# Altium integrated library TI Power Management Battery Management.IntLib: 949 symbols (part 16 of 62)
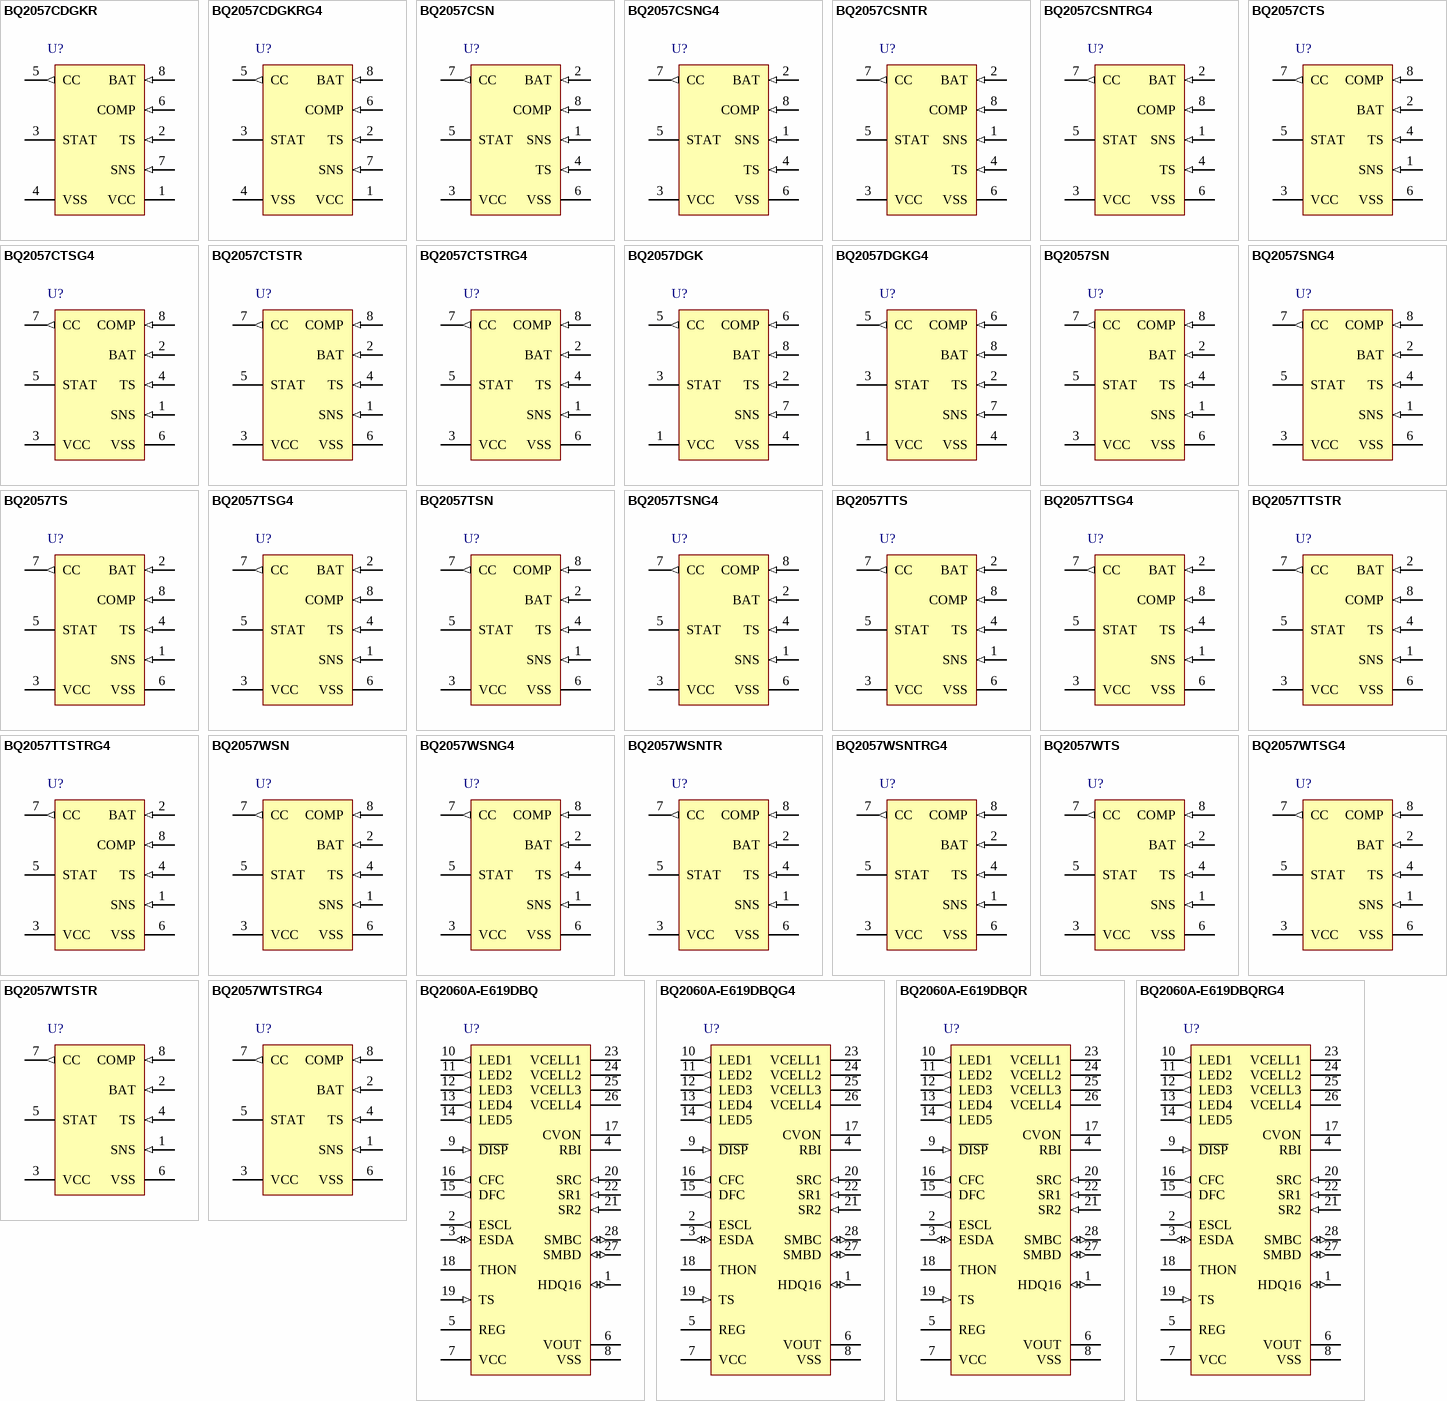
[diagram p49: symbols BQ2057CDGKR to BQ2060A-E619DBQRG4]

## BQ2057CSN
designator U?
Low Dropout Linear 1-Cell Li-Ion Charge Controller with AutoCompTM, 4.5 V, -20 to 70 degC, 8-pin SOIC (D), Green (RoHS & no Sb/Br); PartNumber: BQ2057CSN; Manufacturer: Texas Instruments; Lead Acid: N; Li-Ion: Y; SubFamily: Battery Charge Management; Vin(Min)(V): 4.5; DatasheetVersion: SLUS025F; PackageVersion: revM, Jun-2011; PackageReference: D8; PackageDescription: 8-Pin Plastic Small Outline Integrated Circuit, 4.9 x 3.9 mm, Pitch 1.27 mm Pitch; Supplier 1: Digi-Key; Supplier Part Number 1: 296-9358-5-ND; Supplier 2: Farnell; Supplier Part Number 2: 1652449; Supplier 3: Newark; Supplier Part Number 3: 74C7587; Supplier 4: Mouser; Supplier Part Number 4: 595-BQ2057CSN; Eco-Plan: Green (RoHS & no Sb/Br); Li-Polymer: Y; NiCd: N; NiMH: N; Over Voltage Protection: N; Mounting Technology: Surface Mount; Code_JEDEC: MS-012AA; ComponentLink1Description: Datasheet; ComponentLink1URL: http://www.ti.com/general/docs/lit/getliterature.tsp?genericPartNumber=BQ2057C&fileType=pdf
footprint D8_N (SOIC, 8-Leads, Body 4.9x3.9mm, Pitch 1.27mm, IPC Medium Density)
footprint D8_L (SOIC, 8-Leads, Body 4.9x3.9mm, Pitch 1.27mm, IPC High Density)
footprint D8_M (SOIC, 8-Leads, Body 4.9x3.9mm, Pitch 1.27mm, IPC Low Density)
pins: 1 SNS (in) "Current sense input", 2 BAT (in) "Voltage sense input", 3 VCC (power) "Supply voltage", 4 TS (in) "Temperature sense input", 5 STAT (hiz) "Charge status output", 6 VSS (power) "Ground", 7 CC (out) "Charge control output", 8 COMP (in) "Charge-rate compensation input (AutoComp)"

## BQ2057CSNG4
designator U?
Low Dropout Linear 1-Cell Li-Ion Charge Controller with AutoCompTM, 4.5 V, -20 to 70 degC, 8-pin SOIC (D), Green (RoHS & no Sb/Br); PartNumber: BQ2057CSNG4; Manufacturer: Texas Instruments; Lead Acid: N; Li-Ion: Y; SubFamily: Battery Charge Management; Vin(Min)(V): 4.5; DatasheetVersion: SLUS025F; PackageVersion: revM, Jun-2011; PackageReference: D8; PackageDescription: 8-Pin Plastic Small Outline Integrated Circuit, 4.9 x 3.9 mm, Pitch 1.27 mm Pitch; Supplier 1: Digi-Key; Supplier Part Number 1: BQ2057CSNG4-ND; Supplier 2: Newark; Supplier Part Number 2: 18M1764; Supplier 3: Mouser; Supplier Part Number 3: 595-BQ2057CSNG4; Eco-Plan: Green (RoHS & no Sb/Br); Li-Polymer: Y; NiCd: N; NiMH: N; Over Voltage Protection: N; Mounting Technology: Surface Mount; Code_JEDEC: MS-012AA; ComponentLink1Description: Datasheet; ComponentLink1URL: http://www.ti.com/general/docs/lit/getliterature.tsp?genericPartNumber=BQ2057C&fileType=pdf
footprint D8_N (SOIC, 8-Leads, Body 4.9x3.9mm, Pitch 1.27mm, IPC Medium Density)
footprint D8_L (SOIC, 8-Leads, Body 4.9x3.9mm, Pitch 1.27mm, IPC High Density)
footprint D8_M (SOIC, 8-Leads, Body 4.9x3.9mm, Pitch 1.27mm, IPC Low Density)
pins: 1 SNS (in) "Current sense input", 2 BAT (in) "Voltage sense input", 3 VCC (power) "Supply voltage", 4 TS (in) "Temperature sense input", 5 STAT (hiz) "Charge status output", 6 VSS (power) "Ground", 7 CC (out) "Charge control output", 8 COMP (in) "Charge-rate compensation input (AutoComp)"

## BQ2057CSNTR
designator U?
Low Dropout Linear 1-Cell Li-Ion Charge Controller with AutoCompTM, 4.5 V, -20 to 70 degC, 8-pin SOIC (D), Green (RoHS & no Sb/Br); PartNumber: BQ2057CSNTR; Manufacturer: Texas Instruments; Lead Acid: N; Li-Ion: Y; SubFamily: Battery Charge Management; Vin(Min)(V): 4.5; DatasheetVersion: SLUS025F; PackageVersion: revM, Jun-2011; PackageReference: D8; PackageDescription: 8-Pin Plastic Small Outline Integrated Circuit, 4.9 x 3.9 mm, Pitch 1.27 mm Pitch; Supplier 1: Digi-Key; Supplier Part Number 1: BQ2057CSNTR-ND; Supplier 2: Newark; Supplier Part Number 2: 74C7588; Supplier 3: Mouser; Supplier Part Number 3: 595-BQ2057CSNTR; Eco-Plan: Green (RoHS & no Sb/Br); Li-Polymer: Y; NiCd: N; NiMH: N; Over Voltage Protection: N; Mounting Technology: Surface Mount; Code_JEDEC: MS-012AA; ComponentLink1Description: Datasheet; ComponentLink1URL: http://www.ti.com/general/docs/lit/getliterature.tsp?genericPartNumber=BQ2057C&fileType=pdf
footprint D8_N (SOIC, 8-Leads, Body 4.9x3.9mm, Pitch 1.27mm, IPC Medium Density)
footprint D8_L (SOIC, 8-Leads, Body 4.9x3.9mm, Pitch 1.27mm, IPC High Density)
footprint D8_M (SOIC, 8-Leads, Body 4.9x3.9mm, Pitch 1.27mm, IPC Low Density)
pins: 1 SNS (in) "Current sense input", 2 BAT (in) "Voltage sense input", 3 VCC (power) "Supply voltage", 4 TS (in) "Temperature sense input", 5 STAT (hiz) "Charge status output", 6 VSS (power) "Ground", 7 CC (out) "Charge control output", 8 COMP (in) "Charge-rate compensation input (AutoComp)"

## BQ2057CSNTRG4
designator U?
Low Dropout Linear 1-Cell Li-Ion Charge Controller with AutoCompTM, 4.5 V, -20 to 70 degC, 8-pin SOIC (D), Green (RoHS & no Sb/Br); PartNumber: BQ2057CSNTRG4; Manufacturer: Texas Instruments; Lead Acid: N; Li-Ion: Y; SubFamily: Battery Charge Management; Vin(Min)(V): 4.5; DatasheetVersion: SLUS025F; PackageVersion: revM, Jun-2011; PackageReference: D8; PackageDescription: 8-Pin Plastic Small Outline Integrated Circuit, 4.9 x 3.9 mm, Pitch 1.27 mm Pitch; Supplier 1: Digi-Key; Supplier Part Number 1: BQ2057CSNTRG4-ND; Supplier 2: Newark; Supplier Part Number 2: 18M1765; Supplier 3: Mouser; Supplier Part Number 3: 595-BQ2057CSNTRG4; Eco-Plan: Green (RoHS & no Sb/Br); Li-Polymer: Y; NiCd: N; NiMH: N; Over Voltage Protection: N; Mounting Technology: Surface Mount; Code_JEDEC: MS-012AA; ComponentLink1Description: Datasheet; ComponentLink1URL: http://www.ti.com/general/docs/lit/getliterature.tsp?genericPartNumber=BQ2057C&fileType=pdf
footprint D8_N (SOIC, 8-Leads, Body 4.9x3.9mm, Pitch 1.27mm, IPC Medium Density)
footprint D8_L (SOIC, 8-Leads, Body 4.9x3.9mm, Pitch 1.27mm, IPC High Density)
footprint D8_M (SOIC, 8-Leads, Body 4.9x3.9mm, Pitch 1.27mm, IPC Low Density)
pins: 1 SNS (in) "Current sense input", 2 BAT (in) "Voltage sense input", 3 VCC (power) "Supply voltage", 4 TS (in) "Temperature sense input", 5 STAT (hiz) "Charge status output", 6 VSS (power) "Ground", 7 CC (out) "Charge control output", 8 COMP (in) "Charge-rate compensation input (AutoComp)"

## BQ2057CTS
designator U?
Low Dropout Linear 1-Cell Li-Ion Charge Controller with AutoCompTM, 4.5 V, -20 to 70 degC, 8-pin TSSOP (PW), Green (RoHS & no Sb/Br); PartNumber: BQ2057CTS; Manufacturer: Texas Instruments; Lead Acid: N; Li-Ion: Y; SubFamily: Battery Charge Management; Vin(Min)(V): 4.5; DatasheetVersion: SLUS025F; PackageVersion: revG, Feb-2011; PackageReference: PW8; PackageDescription: 8-Pin Plastic Thin Small Outline Package 3 x 4.4 mm Body ,0.65 mm Pitch; Supplier 1: Digi-Key; Supplier Part Number 1: 296-9359-5-ND; Supplier 2: Newark; Supplier Part Number 2: 73C1707; Supplier 3: Mouser; Supplier Part Number 3: 595-BQ2057CTS; Eco-Plan: Green (RoHS & no Sb/Br); Li-Polymer: Y; NiCd: N; NiMH: N; Over Voltage Protection: N; Mounting Technology: Surface Mount; Code_JEDEC: MO-153; ComponentLink1Description: Datasheet; ComponentLink1URL: http://www.ti.com/general/docs/lit/getliterature.tsp?genericPartNumber=BQ2057C&fileType=pdf
footprint PW8_N (TSOP, 8-Leads, Body 3x4.4mm, Pitch 0.65mm, IPC Medium Density)
footprint PW8_L (TSOP, 8-Leads, Body 3x4.4mm, Pitch 0.65mm, IPC High Density)
footprint PW8_M (TSOP, 8-Leads, Body 3x4.4mm, Pitch 0.65mm, IPC Low Density)
pins: 1 SNS (in) "Current sense input", 2 BAT (in) "Voltage sense input", 3 VCC (power) "Supply voltage", 4 TS (in) "Temperature sense input", 5 STAT (hiz) "Charge status output", 6 VSS (power) "Ground", 7 CC (out) "Charge control output", 8 COMP (in) "Charge-rate compensation input (AutoComp)"

## BQ2057CTSG4
designator U?
Low Dropout Linear 1-Cell Li-Ion Charge Controller with AutoCompTM, 4.5 V, -20 to 70 degC, 8-pin TSSOP (PW), Green (RoHS & no Sb/Br); PartNumber: BQ2057CTSG4; Manufacturer: Texas Instruments; Lead Acid: N; Li-Ion: Y; SubFamily: Battery Charge Management; Vin(Min)(V): 4.5; DatasheetVersion: SLUS025F; PackageVersion: revG, Feb-2011; PackageReference: PW8; PackageDescription: 8-Pin Plastic Thin Small Outline Package 3 x 4.4 mm Body ,0.65 mm Pitch; Supplier 1: Digi-Key; Supplier Part Number 1: BQ2057CTSG4-ND; Supplier 2: Farnell; Supplier Part Number 2: 1287423; Supplier 3: Newark; Supplier Part Number 3: 58K5575; Supplier 4: Mouser; Supplier Part Number 4: 595-BQ2057CTSG4; Eco-Plan: Green (RoHS & no Sb/Br); Li-Polymer: Y; NiCd: N; NiMH: N; Over Voltage Protection: N; Mounting Technology: Surface Mount; Code_JEDEC: MO-153; ComponentLink1Description: Datasheet; ComponentLink1URL: http://www.ti.com/general/docs/lit/getliterature.tsp?genericPartNumber=BQ2057C&fileType=pdf
footprint PW8_N (TSOP, 8-Leads, Body 3x4.4mm, Pitch 0.65mm, IPC Medium Density)
footprint PW8_L (TSOP, 8-Leads, Body 3x4.4mm, Pitch 0.65mm, IPC High Density)
footprint PW8_M (TSOP, 8-Leads, Body 3x4.4mm, Pitch 0.65mm, IPC Low Density)
pins: 1 SNS (in) "Current sense input", 2 BAT (in) "Voltage sense input", 3 VCC (power) "Supply voltage", 4 TS (in) "Temperature sense input", 5 STAT (hiz) "Charge status output", 6 VSS (power) "Ground", 7 CC (out) "Charge control output", 8 COMP (in) "Charge-rate compensation input (AutoComp)"

## BQ2057CTSTR
designator U?
Low Dropout Linear 1-Cell Li-Ion Charge Controller with AutoCompTM, 4.5 V, -20 to 70 degC, 8-pin TSSOP (PW), Green (RoHS & no Sb/Br); PartNumber: BQ2057CTSTR; Manufacturer: Texas Instruments; Lead Acid: N; Li-Ion: Y; SubFamily: Battery Charge Management; Vin(Min)(V): 4.5; DatasheetVersion: SLUS025F; PackageVersion: revG, Feb-2011; PackageReference: PW8; PackageDescription: 8-Pin Plastic Thin Small Outline Package 3 x 4.4 mm Body ,0.65 mm Pitch; Supplier 1: Digi-Key; Supplier Part Number 1: 296-25916-2-ND; Supplier 2: Digi-Key; Supplier Part Number 2: 296-25916-1-ND; Supplier 3: Digi-Key; Supplier Part Number 3: 296-25916-6-ND; Supplier 4: Newark; Supplier Part Number 4: 74C7589; Supplier 5: Mouser; Supplier Part Number 5: 595-BQ2057CTSTR; Eco-Plan: Green (RoHS & no Sb/Br); Li-Polymer: Y; NiCd: N; NiMH: N; Over Voltage Protection: N; Mounting Technology: Surface Mount; Code_JEDEC: MO-153; ComponentLink1Description: Datasheet; ComponentLink1URL: http://www.ti.com/general/docs/lit/getliterature.tsp?genericPartNumber=BQ2057C&fileType=pdf
footprint PW8_N (TSOP, 8-Leads, Body 3x4.4mm, Pitch 0.65mm, IPC Medium Density)
footprint PW8_L (TSOP, 8-Leads, Body 3x4.4mm, Pitch 0.65mm, IPC High Density)
footprint PW8_M (TSOP, 8-Leads, Body 3x4.4mm, Pitch 0.65mm, IPC Low Density)
pins: 1 SNS (in) "Current sense input", 2 BAT (in) "Voltage sense input", 3 VCC (power) "Supply voltage", 4 TS (in) "Temperature sense input", 5 STAT (hiz) "Charge status output", 6 VSS (power) "Ground", 7 CC (out) "Charge control output", 8 COMP (in) "Charge-rate compensation input (AutoComp)"

## BQ2057CTSTRG4
designator U?
Low Dropout Linear 1-Cell Li-Ion Charge Controller with AutoCompTM, 4.5 V, -20 to 70 degC, 8-pin TSSOP (PW), Green (RoHS & no Sb/Br); PartNumber: BQ2057CTSTRG4; Manufacturer: Texas Instruments; Lead Acid: N; Li-Ion: Y; SubFamily: Battery Charge Management; Vin(Min)(V): 4.5; DatasheetVersion: SLUS025F; PackageVersion: revG, Feb-2011; PackageReference: PW8; PackageDescription: 8-Pin Plastic Thin Small Outline Package 3 x 4.4 mm Body ,0.65 mm Pitch; Supplier 1: Digi-Key; Supplier Part Number 1: BQ2057CTSTRG4-ND; Supplier 2: Newark; Supplier Part Number 2: 24K4377; Supplier 3: Mouser; Supplier Part Number 3: 595-BQ2057CTSTRG4; Eco-Plan: Green (RoHS & no Sb/Br); Li-Polymer: Y; NiCd: N; NiMH: N; Over Voltage Protection: N; Mounting Technology: Surface Mount; Code_JEDEC: MO-153; ComponentLink1Description: Datasheet; ComponentLink1URL: http://www.ti.com/general/docs/lit/getliterature.tsp?genericPartNumber=BQ2057C&fileType=pdf
footprint PW8_N (TSOP, 8-Leads, Body 3x4.4mm, Pitch 0.65mm, IPC Medium Density)
footprint PW8_L (TSOP, 8-Leads, Body 3x4.4mm, Pitch 0.65mm, IPC High Density)
footprint PW8_M (TSOP, 8-Leads, Body 3x4.4mm, Pitch 0.65mm, IPC Low Density)
pins: 1 SNS (in) "Current sense input", 2 BAT (in) "Voltage sense input", 3 VCC (power) "Supply voltage", 4 TS (in) "Temperature sense input", 5 STAT (hiz) "Charge status output", 6 VSS (power) "Ground", 7 CC (out) "Charge control output", 8 COMP (in) "Charge-rate compensation input (AutoComp)"

## BQ2057DGK
designator U?
Low Dropout Linear 1-Cell Li-Ion Charge Controller with AutoCompTM, 4.5 V, -20 to 70 degC, 8-pin MSOP (DGK), Green (RoHS & no Sb/Br); PartNumber: BQ2057DGK; Manufacturer: Texas Instruments; Lead Acid: N; Li-Ion: Y; SubFamily: Battery Charge Management; Vin(Min)(V): 4.5; DatasheetVersion: SLUS025F; PackageVersion: revE, May-2006; PackageReference: DGK8; PackageDescription: 8-Pin Thin Small Outline Package 3 x 3 mm Body ,0.65 mm Pitch; Supplier 1: Digi-Key; Supplier Part Number 1: 296-11992-5-ND; Supplier 2: Newark; Supplier Part Number 2: 74C7590; Supplier 3: Mouser; Supplier Part Number 3: 595-BQ2057DGK; Eco-Plan: Green (RoHS & no Sb/Br); Li-Polymer: Y; NiCd: N; NiMH: N; Over Voltage Protection: N; Mounting Technology: Surface Mount; Code_JEDEC: MO-187-AA; ComponentLink1Description: Datasheet; ComponentLink1URL: http://www.ti.com/general/docs/lit/getliterature.tsp?genericPartNumber=BQ2057&fileType=pdf
footprint DGK8_N (TSOP, 8-Leads, Body 3x3mm, Pitch 0.65mm, IPC Medium Density)
footprint DGK8_L (TSOP, 8-Leads, Body 3x3mm, Pitch 0.65mm, IPC High Density)
footprint DGK8_M (TSOP, 8-Leads, Body 3x3mm, Pitch 0.65mm, IPC Low Density)
pins: 1 VCC (power) "Supply voltage", 2 TS (in) "Temperature sense input", 3 STAT (hiz) "Charge status output", 4 VSS (power) "Ground", 5 CC (out) "Charge control output", 6 COMP (in) "Charge-rate compensation input (AutoComp)", 7 SNS (in) "Current sense input", 8 BAT (in) "Voltage sense input"

## BQ2057DGKG4
designator U?
Low Dropout Linear 1-Cell Li-Ion Charge Controller with AutoCompTM, 4.5 V, -20 to 70 degC, 8-pin MSOP (DGK), Green (RoHS & no Sb/Br); PartNumber: BQ2057DGKG4; Manufacturer: Texas Instruments; Lead Acid: N; Li-Ion: Y; SubFamily: Battery Charge Management; Vin(Min)(V): 4.5; DatasheetVersion: SLUS025F; PackageVersion: revE, May-2006; PackageReference: DGK8; PackageDescription: 8-Pin Thin Small Outline Package 3 x 3 mm Body ,0.65 mm Pitch; Supplier 1: Digi-Key; Supplier Part Number 1: BQ2057DGKG4-ND; Supplier 2: Newark; Supplier Part Number 2: 06M7009; Supplier 3: Mouser; Supplier Part Number 3: 595-BQ2057DGKG4; Eco-Plan: Green (RoHS & no Sb/Br); Li-Polymer: Y; NiCd: N; NiMH: N; Over Voltage Protection: N; Mounting Technology: Surface Mount; Code_JEDEC: MO-187-AA; ComponentLink1Description: Datasheet; ComponentLink1URL: http://www.ti.com/general/docs/lit/getliterature.tsp?genericPartNumber=BQ2057&fileType=pdf
footprint DGK8_N (TSOP, 8-Leads, Body 3x3mm, Pitch 0.65mm, IPC Medium Density)
footprint DGK8_L (TSOP, 8-Leads, Body 3x3mm, Pitch 0.65mm, IPC High Density)
footprint DGK8_M (TSOP, 8-Leads, Body 3x3mm, Pitch 0.65mm, IPC Low Density)
pins: 1 VCC (power) "Supply voltage", 2 TS (in) "Temperature sense input", 3 STAT (hiz) "Charge status output", 4 VSS (power) "Ground", 5 CC (out) "Charge control output", 6 COMP (in) "Charge-rate compensation input (AutoComp)", 7 SNS (in) "Current sense input", 8 BAT (in) "Voltage sense input"

## BQ2057SN
designator U?
Low Dropout Linear 1-Cell Li-Ion Charge Controller with AutoCompTM, 4.5 V, -20 to 70 degC, 8-pin SOIC (D), Green (RoHS & no Sb/Br); PartNumber: BQ2057SN; Manufacturer: Texas Instruments; Lead Acid: N; Li-Ion: Y; SubFamily: Battery Charge Management; Vin(Min)(V): 4.5; DatasheetVersion: SLUS025F; PackageVersion: revM, Jun-2011; PackageReference: D8; PackageDescription: 8-Pin Plastic Small Outline Integrated Circuit, 4.9 x 3.9 mm, Pitch 1.27 mm Pitch; Supplier 1: Digi-Key; Supplier Part Number 1: 296-9360-5-ND; Supplier 2: Farnell; Supplier Part Number 2: 1101403; Supplier 3: Newark; Supplier Part Number 3: 74C7592; Supplier 4: Mouser; Supplier Part Number 4: 595-BQ2057SN; Eco-Plan: Green (RoHS & no Sb/Br); Li-Polymer: Y; NiCd: N; NiMH: N; Over Voltage Protection: N; Mounting Technology: Surface Mount; Code_JEDEC: MS-012AA; ComponentLink1Description: Datasheet; ComponentLink1URL: http://www.ti.com/general/docs/lit/getliterature.tsp?genericPartNumber=BQ2057&fileType=pdf
footprint D8_N (SOIC, 8-Leads, Body 4.9x3.9mm, Pitch 1.27mm, IPC Medium Density)
footprint D8_L (SOIC, 8-Leads, Body 4.9x3.9mm, Pitch 1.27mm, IPC High Density)
footprint D8_M (SOIC, 8-Leads, Body 4.9x3.9mm, Pitch 1.27mm, IPC Low Density)
pins: 1 SNS (in) "Current sense input", 2 BAT (in) "Voltage sense input", 3 VCC (power) "Supply voltage", 4 TS (in) "Temperature sense input", 5 STAT (hiz) "Charge status output", 6 VSS (power) "Ground", 7 CC (out) "Charge control output", 8 COMP (in) "Charge-rate compensation input (AutoComp)"

## BQ2057SNG4
designator U?
Low Dropout Linear 1-Cell Li-Ion Charge Controller with AutoCompTM, 4.5 V, -20 to 70 degC, 8-pin SOIC (D), Green (RoHS & no Sb/Br); PartNumber: BQ2057SNG4; Manufacturer: Texas Instruments; Lead Acid: N; Li-Ion: Y; SubFamily: Battery Charge Management; Vin(Min)(V): 4.5; DatasheetVersion: SLUS025F; PackageVersion: revM, Jun-2011; PackageReference: D8; PackageDescription: 8-Pin Plastic Small Outline Integrated Circuit, 4.9 x 3.9 mm, Pitch 1.27 mm Pitch; Supplier 1: Digi-Key; Supplier Part Number 1: BQ2057SNG4-ND; Supplier 2: Newark; Supplier Part Number 2: 52M3028; Supplier 3: Mouser; Supplier Part Number 3: 595-BQ2057SNG4; Eco-Plan: Green (RoHS & no Sb/Br); Li-Polymer: Y; NiCd: N; NiMH: N; Over Voltage Protection: N; Mounting Technology: Surface Mount; Code_JEDEC: MS-012AA; ComponentLink1Description: Datasheet; ComponentLink1URL: http://www.ti.com/general/docs/lit/getliterature.tsp?genericPartNumber=BQ2057&fileType=pdf
footprint D8_N (SOIC, 8-Leads, Body 4.9x3.9mm, Pitch 1.27mm, IPC Medium Density)
footprint D8_L (SOIC, 8-Leads, Body 4.9x3.9mm, Pitch 1.27mm, IPC High Density)
footprint D8_M (SOIC, 8-Leads, Body 4.9x3.9mm, Pitch 1.27mm, IPC Low Density)
pins: 1 SNS (in) "Current sense input", 2 BAT (in) "Voltage sense input", 3 VCC (power) "Supply voltage", 4 TS (in) "Temperature sense input", 5 STAT (hiz) "Charge status output", 6 VSS (power) "Ground", 7 CC (out) "Charge control output", 8 COMP (in) "Charge-rate compensation input (AutoComp)"

## BQ2057TS
designator U?
Low Dropout Linear 1-Cell Li-Ion Charge Controller with AutoCompTM, 4.1 V, 4.5 V, -20 to 70 degC, 8-pin TSSOP (PW), Green (RoHS & no Sb/Br); PartNumber: BQ2057TS; Manufacturer: Texas Instruments; Lead Acid: N; Li-Ion: Y; SubFamily: Battery Charge Management; Vin(Min)(V): 4.5; DatasheetVersion: SLUS025F; PackageVersion: revG, Feb-2011; PackageReference: PW8; PackageDescription: 8-Pin Plastic Thin Small Outline Package 3 x 4.4 mm Body ,0.65 mm Pitch; Supplier 1: Digi-Key; Supplier Part Number 1: 296-9361-5-ND; Supplier 2: Farnell; Supplier Part Number 2: 1533750; Supplier 3: Newark; Supplier Part Number 3: 74C7594; Supplier 4: Mouser; Supplier Part Number 4: 595-BQ2057TS; Eco-Plan: Green (RoHS & no Sb/Br); Li-Polymer: Y; NiCd: N; NiMH: N; Over Voltage Protection: N; Mounting Technology: Surface Mount; Code_JEDEC: MO-153; ComponentLink1Description: Datasheet; ComponentLink1URL: http://www.ti.com/general/docs/lit/getliterature.tsp?genericPartNumber=BQ2057&fileType=pdf
footprint PW8_N (TSOP, 8-Leads, Body 3x4.4mm, Pitch 0.65mm, IPC Medium Density)
footprint PW8_L (TSOP, 8-Leads, Body 3x4.4mm, Pitch 0.65mm, IPC High Density)
footprint PW8_M (TSOP, 8-Leads, Body 3x4.4mm, Pitch 0.65mm, IPC Low Density)
pins: 1 SNS (in) "Current sense input", 2 BAT (in) "Voltage sense input", 3 VCC (power) "Supply voltage", 4 TS (in) "Temperature sense input", 5 STAT (hiz) "Charge status output", 6 VSS (power) "Ground", 7 CC (out) "Charge control output", 8 COMP (in) "Charge-rate compensation input (AutoComp)"

## BQ2057TSG4
designator U?
Low Dropout Linear 1-Cell Li-Ion Charge Controller with AutoCompTM, 4.1 V, 4.5 V, -20 to 70 degC, 8-pin TSSOP (PW), Green (RoHS & no Sb/Br); PartNumber: BQ2057TSG4; Manufacturer: Texas Instruments; Lead Acid: N; Li-Ion: Y; SubFamily: Battery Charge Management; Vin(Min)(V): 4.5; DatasheetVersion: SLUS025F; PackageVersion: revG, Feb-2011; PackageReference: PW8; PackageDescription: 8-Pin Plastic Thin Small Outline Package 3 x 4.4 mm Body ,0.65 mm Pitch; Supplier 1: Digi-Key; Supplier Part Number 1: BQ2057TSG4-ND; Supplier 2: Newark; Supplier Part Number 2: 41M2256; Supplier 3: Mouser; Supplier Part Number 3: 595-BQ2057TSG4; Eco-Plan: Green (RoHS & no Sb/Br); Li-Polymer: Y; NiCd: N; NiMH: N; Over Voltage Protection: N; Mounting Technology: Surface Mount; Code_JEDEC: MO-153; ComponentLink1Description: Datasheet; ComponentLink1URL: http://www.ti.com/general/docs/lit/getliterature.tsp?genericPartNumber=BQ2057&fileType=pdf
footprint PW8_N (TSOP, 8-Leads, Body 3x4.4mm, Pitch 0.65mm, IPC Medium Density)
footprint PW8_L (TSOP, 8-Leads, Body 3x4.4mm, Pitch 0.65mm, IPC High Density)
footprint PW8_M (TSOP, 8-Leads, Body 3x4.4mm, Pitch 0.65mm, IPC Low Density)
pins: 1 SNS (in) "Current sense input", 2 BAT (in) "Voltage sense input", 3 VCC (power) "Supply voltage", 4 TS (in) "Temperature sense input", 5 STAT (hiz) "Charge status output", 6 VSS (power) "Ground", 7 CC (out) "Charge control output", 8 COMP (in) "Charge-rate compensation input (AutoComp)"

## BQ2057TSN
designator U?
Low Dropout Linear 2-Cell Li-Ion Charge Controller with AutoCompTM, 4.5 V, -20 to 70 degC, 8-pin SOIC (D), Green (RoHS & no Sb/Br); PartNumber: BQ2057TSN; Manufacturer: Texas Instruments; Lead Acid: N; Li-Ion: Y; SubFamily: Battery Charge Management; Vin(Min)(V): 4.5; DatasheetVersion: SLUS025F; PackageVersion: revM, Jun-2011; PackageReference: D8; PackageDescription: 8-Pin Plastic Small Outline Integrated Circuit, 4.9 x 3.9 mm, Pitch 1.27 mm Pitch; Supplier 1: Digi-Key; Supplier Part Number 1: 296-9362-5-ND; Supplier 2: Newark; Supplier Part Number 2: 74C7595; Supplier 3: Mouser; Supplier Part Number 3: 595-BQ2057TSN; Eco-Plan: Green (RoHS & no Sb/Br); Li-Polymer: Y; NiCd: N; NiMH: N; Over Voltage Protection: N; Mounting Technology: Surface Mount; Code_JEDEC: MS-012AA; ComponentLink1Description: Datasheet; ComponentLink1URL: http://www.ti.com/general/docs/lit/getliterature.tsp?genericPartNumber=BQ2057T&fileType=pdf
footprint D8_N (SOIC, 8-Leads, Body 4.9x3.9mm, Pitch 1.27mm, IPC Medium Density)
footprint D8_L (SOIC, 8-Leads, Body 4.9x3.9mm, Pitch 1.27mm, IPC High Density)
footprint D8_M (SOIC, 8-Leads, Body 4.9x3.9mm, Pitch 1.27mm, IPC Low Density)
pins: 1 SNS (in) "Current sense input", 2 BAT (in) "Voltage sense input", 3 VCC (power) "Supply voltage", 4 TS (in) "Temperature sense input", 5 STAT (hiz) "Charge status output", 6 VSS (power) "Ground", 7 CC (out) "Charge control output", 8 COMP (in) "Charge-rate compensation input (AutoComp)"

## BQ2057TSNG4
designator U?
Low Dropout Linear 2-Cell Li-Ion Charge Controller with AutoCompTM, 4.5 V, -20 to 70 degC, 8-pin SOIC (D), Green (RoHS & no Sb/Br); PartNumber: BQ2057TSNG4; Manufacturer: Texas Instruments; Lead Acid: N; Li-Ion: Y; SubFamily: Battery Charge Management; Vin(Min)(V): 4.5; DatasheetVersion: SLUS025F; PackageVersion: revM, Jun-2011; PackageReference: D8; PackageDescription: 8-Pin Plastic Small Outline Integrated Circuit, 4.9 x 3.9 mm, Pitch 1.27 mm Pitch; Supplier 1: Digi-Key; Supplier Part Number 1: BQ2057TSNG4-ND; Supplier 2: Newark; Supplier Part Number 2: 94M6311; Supplier 3: Mouser; Supplier Part Number 3: 595-BQ2057TSNG4; Eco-Plan: Green (RoHS & no Sb/Br); Li-Polymer: Y; NiCd: N; NiMH: N; Over Voltage Protection: N; Mounting Technology: Surface Mount; Code_JEDEC: MS-012AA; ComponentLink1Description: Datasheet; ComponentLink1URL: http://www.ti.com/general/docs/lit/getliterature.tsp?genericPartNumber=BQ2057T&fileType=pdf
footprint D8_N (SOIC, 8-Leads, Body 4.9x3.9mm, Pitch 1.27mm, IPC Medium Density)
footprint D8_L (SOIC, 8-Leads, Body 4.9x3.9mm, Pitch 1.27mm, IPC High Density)
footprint D8_M (SOIC, 8-Leads, Body 4.9x3.9mm, Pitch 1.27mm, IPC Low Density)
pins: 1 SNS (in) "Current sense input", 2 BAT (in) "Voltage sense input", 3 VCC (power) "Supply voltage", 4 TS (in) "Temperature sense input", 5 STAT (hiz) "Charge status output", 6 VSS (power) "Ground", 7 CC (out) "Charge control output", 8 COMP (in) "Charge-rate compensation input (AutoComp)"

## BQ2057TTS
designator U?
Low Dropout Linear 2-Cell Li-Ion Charge Controller with AutoCompTM, 4.5 V, -20 to 70 degC, 8-pin TSSOP (PW), Green (RoHS & no Sb/Br); PartNumber: BQ2057TTS; Manufacturer: Texas Instruments; Lead Acid: N; Li-Ion: Y; SubFamily: Battery Charge Management; Vin(Min)(V): 4.5; DatasheetVersion: SLUS025F; PackageVersion: revG, Feb-2011; PackageReference: PW8; PackageDescription: 8-Pin Plastic Thin Small Outline Package 3 x 4.4 mm Body ,0.65 mm Pitch; Supplier 1: Digi-Key; Supplier Part Number 1: 296-9363-5-ND; Supplier 2: Newark; Supplier Part Number 2: 74C7598; Supplier 3: Mouser; Supplier Part Number 3: 595-BQ2057TTS; Eco-Plan: Green (RoHS & no Sb/Br); Li-Polymer: Y; NiCd: N; NiMH: N; Over Voltage Protection: N; Mounting Technology: Surface Mount; Code_JEDEC: MO-153; ComponentLink1Description: Datasheet; ComponentLink1URL: http://www.ti.com/general/docs/lit/getliterature.tsp?genericPartNumber=BQ2057T&fileType=pdf
footprint PW8_N (TSOP, 8-Leads, Body 3x4.4mm, Pitch 0.65mm, IPC Medium Density)
footprint PW8_L (TSOP, 8-Leads, Body 3x4.4mm, Pitch 0.65mm, IPC High Density)
footprint PW8_M (TSOP, 8-Leads, Body 3x4.4mm, Pitch 0.65mm, IPC Low Density)
pins: 1 SNS (in) "Current sense input", 2 BAT (in) "Voltage sense input", 3 VCC (power) "Supply voltage", 4 TS (in) "Temperature sense input", 5 STAT (hiz) "Charge status output", 6 VSS (power) "Ground", 7 CC (out) "Charge control output", 8 COMP (in) "Charge-rate compensation input (AutoComp)"

## BQ2057TTSG4
designator U?
Low Dropout Linear 2-Cell Li-Ion Charge Controller with AutoCompTM, 4.5 V, -20 to 70 degC, 8-pin TSSOP (PW), Green (RoHS & no Sb/Br); PartNumber: BQ2057TTSG4; Manufacturer: Texas Instruments; Lead Acid: N; Li-Ion: Y; SubFamily: Battery Charge Management; Vin(Min)(V): 4.5; DatasheetVersion: SLUS025F; PackageVersion: revG, Feb-2011; PackageReference: PW8; PackageDescription: 8-Pin Plastic Thin Small Outline Package 3 x 4.4 mm Body ,0.65 mm Pitch; Supplier 1: Digi-Key; Supplier Part Number 1: BQ2057TTSG4-ND; Supplier 2: Newark; Supplier Part Number 2: 69K8926; Supplier 3: Mouser; Supplier Part Number 3: 595-BQ2057TTSG4; Eco-Plan: Green (RoHS & no Sb/Br); Li-Polymer: Y; NiCd: N; NiMH: N; Over Voltage Protection: N; Mounting Technology: Surface Mount; Code_JEDEC: MO-153; ComponentLink1Description: Datasheet; ComponentLink1URL: http://www.ti.com/general/docs/lit/getliterature.tsp?genericPartNumber=BQ2057T&fileType=pdf
footprint PW8_N (TSOP, 8-Leads, Body 3x4.4mm, Pitch 0.65mm, IPC Medium Density)
footprint PW8_L (TSOP, 8-Leads, Body 3x4.4mm, Pitch 0.65mm, IPC High Density)
footprint PW8_M (TSOP, 8-Leads, Body 3x4.4mm, Pitch 0.65mm, IPC Low Density)
pins: 1 SNS (in) "Current sense input", 2 BAT (in) "Voltage sense input", 3 VCC (power) "Supply voltage", 4 TS (in) "Temperature sense input", 5 STAT (hiz) "Charge status output", 6 VSS (power) "Ground", 7 CC (out) "Charge control output", 8 COMP (in) "Charge-rate compensation input (AutoComp)"

## BQ2057TTSTR
designator U?
Low Dropout Linear 2-Cell Li-Ion Charge Controller with AutoCompTM, 4.5 V, -20 to 70 degC, 8-pin TSSOP (PW), Green (RoHS & no Sb/Br); PartNumber: BQ2057TTSTR; Manufacturer: Texas Instruments; Lead Acid: N; Li-Ion: Y; SubFamily: Battery Charge Management; Vin(Min)(V): 4.5; DatasheetVersion: SLUS025F; PackageVersion: revG, Feb-2011; PackageReference: PW8; PackageDescription: 8-Pin Plastic Thin Small Outline Package 3 x 4.4 mm Body ,0.65 mm Pitch; Supplier 1: Digi-Key; Supplier Part Number 1: BQ2057TTSTR-ND; Supplier 2: Newark; Supplier Part Number 2: 74C7599; Supplier 3: Mouser; Supplier Part Number 3: 595-BQ2057TTSTR; Eco-Plan: Green (RoHS & no Sb/Br); Li-Polymer: Y; NiCd: N; NiMH: N; Over Voltage Protection: N; Mounting Technology: Surface Mount; Code_JEDEC: MO-153; ComponentLink1Description: Datasheet; ComponentLink1URL: http://www.ti.com/general/docs/lit/getliterature.tsp?genericPartNumber=BQ2057T&fileType=pdf
footprint PW8_N (TSOP, 8-Leads, Body 3x4.4mm, Pitch 0.65mm, IPC Medium Density)
footprint PW8_L (TSOP, 8-Leads, Body 3x4.4mm, Pitch 0.65mm, IPC High Density)
footprint PW8_M (TSOP, 8-Leads, Body 3x4.4mm, Pitch 0.65mm, IPC Low Density)
pins: 1 SNS (in) "Current sense input", 2 BAT (in) "Voltage sense input", 3 VCC (power) "Supply voltage", 4 TS (in) "Temperature sense input", 5 STAT (hiz) "Charge status output", 6 VSS (power) "Ground", 7 CC (out) "Charge control output", 8 COMP (in) "Charge-rate compensation input (AutoComp)"

## BQ2057TTSTRG4
designator U?
Low Dropout Linear 2-Cell Li-Ion Charge Controller with AutoCompTM, 8.2 V, 4.5 V, -20 to 70 degC, 8-pin TSSOP (PW), Green (RoHS & no Sb/Br); PartNumber: BQ2057TTSTRG4; Manufacturer: Texas Instruments; Lead Acid: N; Li-Ion: Y; SubFamily: Battery Charge Management; Vin(Min)(V): 4.5; DatasheetVersion: SLUS025F; PackageVersion: revG, Feb-2011; PackageReference: PW8; PackageDescription: 8-Pin Plastic Thin Small Outline Package 3 x 4.4 mm Body ,0.65 mm Pitch; Supplier 1: Digi-Key; Supplier Part Number 1: BQ2057TTSTRG4-ND; Supplier 2: Newark; Supplier Part Number 2: 53K9225; Supplier 3: Mouser; Supplier Part Number 3: 595-BQ2057TTSTRG4; Eco-Plan: Green (RoHS & no Sb/Br); Li-Polymer: Y; NiCd: N; NiMH: N; Over Voltage Protection: N; Mounting Technology: Surface Mount; Code_JEDEC: MO-153; ComponentLink1Description: Datasheet; ComponentLink1URL: http://www.ti.com/general/docs/lit/getliterature.tsp?genericPartNumber=BQ2057T&fileType=pdf
footprint PW8_N (TSOP, 8-Leads, Body 3x4.4mm, Pitch 0.65mm, IPC Medium Density)
footprint PW8_L (TSOP, 8-Leads, Body 3x4.4mm, Pitch 0.65mm, IPC High Density)
footprint PW8_M (TSOP, 8-Leads, Body 3x4.4mm, Pitch 0.65mm, IPC Low Density)
pins: 1 SNS (in) "Current sense input", 2 BAT (in) "Voltage sense input", 3 VCC (power) "Supply voltage", 4 TS (in) "Temperature sense input", 5 STAT (hiz) "Charge status output", 6 VSS (power) "Ground", 7 CC (out) "Charge control output", 8 COMP (in) "Charge-rate compensation input (AutoComp)"

## BQ2057WSN
designator U?
Low Dropout Linear 2-Cell Li-Ion Charge Controller with AutoCompTM, 8.4 V, 4.5 V, -20 to 70 degC, 8-pin SOIC (D), Green (RoHS & no Sb/Br); PartNumber: BQ2057WSN; Manufacturer: Texas Instruments; Lead Acid: N; Li-Ion: Y; SubFamily: Battery Charge Management; Vin(Min)(V): 4.5; DatasheetVersion: SLUS025F; PackageVersion: revM, Jun-2011; PackageReference: D8; PackageDescription: 8-Pin Plastic Small Outline Integrated Circuit, 4.9 x 3.9 mm, Pitch 1.27 mm Pitch; Supplier 1: Digi-Key; Supplier Part Number 1: 296-9364-5-ND; Supplier 2: Farnell; Supplier Part Number 2: 1212263; Supplier 3: Newark; Supplier Part Number 3: 74C7600; Supplier 4: Mouser; Supplier Part Number 4: 595-BQ2057WSN; Eco-Plan: Green (RoHS & no Sb/Br); Li-Polymer: Y; NiCd: N; NiMH: N; Over Voltage Protection: N; Mounting Technology: Surface Mount; Code_JEDEC: MS-012AA; ComponentLink1Description: Datasheet; ComponentLink1URL: http://www.ti.com/general/docs/lit/getliterature.tsp?genericPartNumber=BQ2057W&fileType=pdf
footprint D8_N (SOIC, 8-Leads, Body 4.9x3.9mm, Pitch 1.27mm, IPC Medium Density)
footprint D8_L (SOIC, 8-Leads, Body 4.9x3.9mm, Pitch 1.27mm, IPC High Density)
footprint D8_M (SOIC, 8-Leads, Body 4.9x3.9mm, Pitch 1.27mm, IPC Low Density)
pins: 1 SNS (in) "Current sense input", 2 BAT (in) "Voltage sense input", 3 VCC (power) "Supply voltage", 4 TS (in) "Temperature sense input", 5 STAT (hiz) "Charge status output", 6 VSS (power) "Ground", 7 CC (out) "Charge control output", 8 COMP (in) "Charge-rate compensation input (AutoComp)"

## BQ2057WSNG4
designator U?
Low Dropout Linear 2-Cell Li-Ion Charge Controller with AutoCompTM, 8.4 V, 4.5 V, -20 to 70 degC, 8-pin SOIC (D), Green (RoHS & no Sb/Br); PartNumber: BQ2057WSNG4; Manufacturer: Texas Instruments; Lead Acid: N; Li-Ion: Y; SubFamily: Battery Charge Management; Vin(Min)(V): 4.5; DatasheetVersion: SLUS025F; PackageVersion: revM, Jun-2011; PackageReference: D8; PackageDescription: 8-Pin Plastic Small Outline Integrated Circuit, 4.9 x 3.9 mm, Pitch 1.27 mm Pitch; Supplier 1: Digi-Key; Supplier Part Number 1: BQ2057WSNG4-ND; Supplier 2: Newark; Supplier Part Number 2: 28M4689; Supplier 3: Mouser; Supplier Part Number 3: 595-BQ2057WSNG4; Eco-Plan: Green (RoHS & no Sb/Br); Li-Polymer: Y; NiCd: N; NiMH: N; Over Voltage Protection: N; Mounting Technology: Surface Mount; Code_JEDEC: MS-012AA; ComponentLink1Description: Datasheet; ComponentLink1URL: http://www.ti.com/general/docs/lit/getliterature.tsp?genericPartNumber=BQ2057W&fileType=pdf
footprint D8_N (SOIC, 8-Leads, Body 4.9x3.9mm, Pitch 1.27mm, IPC Medium Density)
footprint D8_L (SOIC, 8-Leads, Body 4.9x3.9mm, Pitch 1.27mm, IPC High Density)
footprint D8_M (SOIC, 8-Leads, Body 4.9x3.9mm, Pitch 1.27mm, IPC Low Density)
pins: 1 SNS (in) "Current sense input", 2 BAT (in) "Voltage sense input", 3 VCC (power) "Supply voltage", 4 TS (in) "Temperature sense input", 5 STAT (hiz) "Charge status output", 6 VSS (power) "Ground", 7 CC (out) "Charge control output", 8 COMP (in) "Charge-rate compensation input (AutoComp)"

## BQ2057WSNTR
designator U?
Low Dropout Linear 2-Cell Li-Ion Charge Controller with AutoCompTM, 8.4 V, 4.5 V, -20 to 70 degC, 8-pin SOIC (D), Green (RoHS & no Sb/Br); PartNumber: BQ2057WSNTR; Manufacturer: Texas Instruments; Lead Acid: N; Li-Ion: Y; SubFamily: Battery Charge Management; Vin(Min)(V): 4.5; DatasheetVersion: SLUS025F; PackageVersion: revM, Jun-2011; PackageReference: D8; PackageDescription: 8-Pin Plastic Small Outline Integrated Circuit, 4.9 x 3.9 mm, Pitch 1.27 mm Pitch; Supplier 1: Digi-Key; Supplier Part Number 1: BQ2057WSNTR-ND; Supplier 2: Newark; Supplier Part Number 2: 74C7601; Supplier 3: Mouser; Supplier Part Number 3: 595-BQ2057WSNTR; Eco-Plan: Green (RoHS & no Sb/Br); Li-Polymer: Y; NiCd: N; NiMH: N; Over Voltage Protection: N; Mounting Technology: Surface Mount; Code_JEDEC: MS-012AA; ComponentLink1Description: Datasheet; ComponentLink1URL: http://www.ti.com/general/docs/lit/getliterature.tsp?genericPartNumber=BQ2057W&fileType=pdf
footprint D8_N (SOIC, 8-Leads, Body 4.9x3.9mm, Pitch 1.27mm, IPC Medium Density)
footprint D8_L (SOIC, 8-Leads, Body 4.9x3.9mm, Pitch 1.27mm, IPC High Density)
footprint D8_M (SOIC, 8-Leads, Body 4.9x3.9mm, Pitch 1.27mm, IPC Low Density)
pins: 1 SNS (in) "Current sense input", 2 BAT (in) "Voltage sense input", 3 VCC (power) "Supply voltage", 4 TS (in) "Temperature sense input", 5 STAT (hiz) "Charge status output", 6 VSS (power) "Ground", 7 CC (out) "Charge control output", 8 COMP (in) "Charge-rate compensation input (AutoComp)"

## BQ2057WSNTRG4
designator U?
Low Dropout Linear 2-Cell Li-Ion Charge Controller with AutoCompTM, 8.4 V, 4.5 V, -20 to 70 degC, 8-pin SOIC (D), Green (RoHS & no Sb/Br); PartNumber: BQ2057WSNTRG4; Manufacturer: Texas Instruments; Lead Acid: N; Li-Ion: Y; SubFamily: Battery Charge Management; Vin(Min)(V): 4.5; DatasheetVersion: SLUS025F; PackageVersion: revM, Jun-2011; PackageReference: D8; PackageDescription: 8-Pin Plastic Small Outline Integrated Circuit, 4.9 x 3.9 mm, Pitch 1.27 mm Pitch; Supplier 1: Digi-Key; Supplier Part Number 1: BQ2057WSNTRG4-ND; Supplier 2: Newark; Supplier Part Number 2: 67K7897; Supplier 3: Mouser; Supplier Part Number 3: 595-BQ2057WSNTRG4; Eco-Plan: Green (RoHS & no Sb/Br); Li-Polymer: Y; NiCd: N; NiMH: N; Over Voltage Protection: N; Mounting Technology: Surface Mount; Code_JEDEC: MS-012AA; ComponentLink1Description: Datasheet; ComponentLink1URL: http://www.ti.com/general/docs/lit/getliterature.tsp?genericPartNumber=BQ2057W&fileType=pdf
footprint D8_N (SOIC, 8-Leads, Body 4.9x3.9mm, Pitch 1.27mm, IPC Medium Density)
footprint D8_L (SOIC, 8-Leads, Body 4.9x3.9mm, Pitch 1.27mm, IPC High Density)
footprint D8_M (SOIC, 8-Leads, Body 4.9x3.9mm, Pitch 1.27mm, IPC Low Density)
pins: 1 SNS (in) "Current sense input", 2 BAT (in) "Voltage sense input", 3 VCC (power) "Supply voltage", 4 TS (in) "Temperature sense input", 5 STAT (hiz) "Charge status output", 6 VSS (power) "Ground", 7 CC (out) "Charge control output", 8 COMP (in) "Charge-rate compensation input (AutoComp)"

## BQ2057WTS
designator U?
Low Dropout Linear 2-Cell Li-Ion Charge Controller with AutoCompTM, 8.4 V, 4.5 V, -20 to 70 degC, 8-pin TSSOP (PW), Green (RoHS & no Sb/Br); PartNumber: BQ2057WTS; Manufacturer: Texas Instruments; Lead Acid: N; Li-Ion: Y; SubFamily: Battery Charge Management; Vin(Min)(V): 4.5; DatasheetVersion: SLUS025F; PackageVersion: revG, Feb-2011; PackageReference: PW8; PackageDescription: 8-Pin Plastic Thin Small Outline Package 3 x 4.4 mm Body ,0.65 mm Pitch; Supplier 1: Digi-Key; Supplier Part Number 1: 296-9365-5-ND; Supplier 2: Newark; Supplier Part Number 2: 74C7602; Supplier 3: Mouser; Supplier Part Number 3: 595-BQ2057WTS; Eco-Plan: Green (RoHS & no Sb/Br); Li-Polymer: Y; NiCd: N; NiMH: N; Over Voltage Protection: N; Mounting Technology: Surface Mount; Code_JEDEC: MO-153; ComponentLink1Description: Datasheet; ComponentLink1URL: http://www.ti.com/general/docs/lit/getliterature.tsp?genericPartNumber=BQ2057W&fileType=pdf
footprint PW8_N (TSOP, 8-Leads, Body 3x4.4mm, Pitch 0.65mm, IPC Medium Density)
footprint PW8_L (TSOP, 8-Leads, Body 3x4.4mm, Pitch 0.65mm, IPC High Density)
footprint PW8_M (TSOP, 8-Leads, Body 3x4.4mm, Pitch 0.65mm, IPC Low Density)
pins: 1 SNS (in) "Current sense input", 2 BAT (in) "Voltage sense input", 3 VCC (power) "Supply voltage", 4 TS (in) "Temperature sense input", 5 STAT (hiz) "Charge status output", 6 VSS (power) "Ground", 7 CC (out) "Charge control output", 8 COMP (in) "Charge-rate compensation input (AutoComp)"

## BQ2057WTSG4
designator U?
Low Dropout Linear 2-Cell Li-Ion Charge Controller with AutoCompTM, 8.4 V, 4.5 V, -20 to 70 degC, 8-pin TSSOP (PW), Green (RoHS & no Sb/Br); PartNumber: BQ2057WTSG4; Manufacturer: Texas Instruments; Lead Acid: N; Li-Ion: Y; SubFamily: Battery Charge Management; Vin(Min)(V): 4.5; DatasheetVersion: SLUS025F; PackageVersion: revG, Feb-2011; PackageReference: PW8; PackageDescription: 8-Pin Plastic Thin Small Outline Package 3 x 4.4 mm Body ,0.65 mm Pitch; Supplier 1: Digi-Key; Supplier Part Number 1: BQ2057WTSG4-ND; Supplier 2: Farnell; Supplier Part Number 2: 1214427; Supplier 3: Newark; Supplier Part Number 3: 96K7077; Supplier 4: Newark; Supplier Part Number 4: 53K9226; Supplier 5: Mouser; Supplier Part Number 5: 595-BQ2057WTSG4; Eco-Plan: Green (RoHS & no Sb/Br); Li-Polymer: Y; NiCd: N; NiMH: N; Over Voltage Protection: N; Mounting Technology: Surface Mount; Code_JEDEC: MO-153; ComponentLink1Description: Datasheet; ComponentLink1URL: http://www.ti.com/general/docs/lit/getliterature.tsp?genericPartNumber=BQ2057W&fileType=pdf
footprint PW8_N (TSOP, 8-Leads, Body 3x4.4mm, Pitch 0.65mm, IPC Medium Density)
footprint PW8_L (TSOP, 8-Leads, Body 3x4.4mm, Pitch 0.65mm, IPC High Density)
footprint PW8_M (TSOP, 8-Leads, Body 3x4.4mm, Pitch 0.65mm, IPC Low Density)
pins: 1 SNS (in) "Current sense input", 2 BAT (in) "Voltage sense input", 3 VCC (power) "Supply voltage", 4 TS (in) "Temperature sense input", 5 STAT (hiz) "Charge status output", 6 VSS (power) "Ground", 7 CC (out) "Charge control output", 8 COMP (in) "Charge-rate compensation input (AutoComp)"

## BQ2057WTSTR
designator U?
Low Dropout Linear 2-Cell Li-Ion Charge Controller with AutoCompTM, 8.4 V, 4.5 V, -20 to 70 degC, 8-pin TSSOP (PW), Green (RoHS & no Sb/Br); PartNumber: BQ2057WTSTR; Manufacturer: Texas Instruments; Lead Acid: N; Li-Ion: Y; SubFamily: Battery Charge Management; Vin(Min)(V): 4.5; DatasheetVersion: SLUS025F; PackageVersion: revG, Feb-2011; PackageReference: PW8; PackageDescription: 8-Pin Plastic Thin Small Outline Package 3 x 4.4 mm Body ,0.65 mm Pitch; Supplier 1: Digi-Key; Supplier Part Number 1: 296-25917-2-ND; Supplier 2: Digi-Key; Supplier Part Number 2: 296-25917-1-ND; Supplier 3: Digi-Key; Supplier Part Number 3: 296-25917-6-ND; Supplier 4: Newark; Supplier Part Number 4: 74C7603; Supplier 5: Mouser; Supplier Part Number 5: 595-BQ2057WTSTR; Eco-Plan: Green (RoHS & no Sb/Br); Li-Polymer: Y; NiCd: N; NiMH: N; Over Voltage Protection: N; Mounting Technology: Surface Mount; Code_JEDEC: MO-153; ComponentLink1Description: Datasheet; ComponentLink1URL: http://www.ti.com/general/docs/lit/getliterature.tsp?genericPartNumber=BQ2057W&fileType=pdf
footprint PW8_N (TSOP, 8-Leads, Body 3x4.4mm, Pitch 0.65mm, IPC Medium Density)
footprint PW8_L (TSOP, 8-Leads, Body 3x4.4mm, Pitch 0.65mm, IPC High Density)
footprint PW8_M (TSOP, 8-Leads, Body 3x4.4mm, Pitch 0.65mm, IPC Low Density)
pins: 1 SNS (in) "Current sense input", 2 BAT (in) "Voltage sense input", 3 VCC (power) "Supply voltage", 4 TS (in) "Temperature sense input", 5 STAT (hiz) "Charge status output", 6 VSS (power) "Ground", 7 CC (out) "Charge control output", 8 COMP (in) "Charge-rate compensation input (AutoComp)"

## BQ2057WTSTRG4
designator U?
Low Dropout Linear 2-Cell Li-Ion Charge Controller with AutoCompTM, 8.4 V, 4.5 V, -20 to 70 degC, 8-pin TSSOP (PW), Green (RoHS & no Sb/Br); PartNumber: BQ2057WTSTRG4; Manufacturer: Texas Instruments; Lead Acid: N; Li-Ion: Y; SubFamily: Battery Charge Management; Vin(Min)(V): 4.5; DatasheetVersion: SLUS025F; PackageVersion: revG, Feb-2011; PackageReference: PW8; PackageDescription: 8-Pin Plastic Thin Small Outline Package 3 x 4.4 mm Body ,0.65 mm Pitch; Supplier 1: Digi-Key; Supplier Part Number 1: BQ2057WTSTRG4-ND; Supplier 2: Newark; Supplier Part Number 2: 30M0609; Supplier 3: Mouser; Supplier Part Number 3: 595-BQ2057WTSTRG4; Eco-Plan: Green (RoHS & no Sb/Br); Li-Polymer: Y; NiCd: N; NiMH: N; Over Voltage Protection: N; Mounting Technology: Surface Mount; Code_JEDEC: MO-153; ComponentLink1Description: Datasheet; ComponentLink1URL: http://www.ti.com/general/docs/lit/getliterature.tsp?genericPartNumber=BQ2057W&fileType=pdf
footprint PW8_N (TSOP, 8-Leads, Body 3x4.4mm, Pitch 0.65mm, IPC Medium Density)
footprint PW8_L (TSOP, 8-Leads, Body 3x4.4mm, Pitch 0.65mm, IPC High Density)
footprint PW8_M (TSOP, 8-Leads, Body 3x4.4mm, Pitch 0.65mm, IPC Low Density)
pins: 1 SNS (in) "Current sense input", 2 BAT (in) "Voltage sense input", 3 VCC (power) "Supply voltage", 4 TS (in) "Temperature sense input", 5 STAT (hiz) "Charge status output", 6 VSS (power) "Ground", 7 CC (out) "Charge control output", 8 COMP (in) "Charge-rate compensation input (AutoComp)"

## BQ2060A-E619DBQ
designator U?
Multi-Chemistry SBS 1.1 Compliant Gas Gauge with 5 LED Drivers, Additional Battery Mgmt Control, -20 to 70 degC, 28-pin SSOP (DBQ), Green (RoHS & no Sb/Br); PartNumber: BQ2060A-E619DBQ; Manufacturer: Texas Instruments; Lead Acid: Y; Li-Polymer: N; SubFamily: Battery Fuel Gauge; DatasheetVersion: SLUS500D; PackageVersion: revH, Oct-2008; PackageReference: DBQ28; PackageDescription: 28-Pin Plastic Small Outline Package 0.635 mm Pitch; Supplier 1: Digi-Key; Supplier Part Number 1: 296-18388-5-ND; Supplier 2: Newark; Supplier Part Number 2: 74C7604; Supplier 3: Mouser; Supplier Part Number 3: 595-BQ2060A-E619DBQ; Eco-Plan: Green (RoHS & no Sb/Br); Li-Ion: Y; NiCd: Y; NiMH: Y; Over Voltage Protection: N; Mounting Technology: Surface Mount; Code_JEDEC: MO-137-AF; ComponentLink1Description: Datasheet; ComponentLink1URL: http://www.ti.com/general/docs/lit/getliterature.tsp?genericPartNumber=BQ2060A&fileType=pdf
footprint DBQ28_N (SOP, 28-Leads, Body 9.9x3.9mm, Pitch 0.635mm, IPC Medium Density)
footprint DBQ28_L (SOP, 28-Leads, Body 9.9x3.9mm, Pitch 0.635mm, IPC High Density)
footprint DBQ28_M (SOP, 28-Leads, Body 9.9x3.9mm, Pitch 0.635mm, IPC Low Density)
pins: 1 HDQ16 (io) "Serial communication input/output. Open-drain bidirectional communications port", 2 ESCL (out) "Serial memory clock. Output to clock the data transfer between the bq2060A and the external nonvolatile configuration memory", 3 ESDA (io) "Serial memory data and address. Bidirectional pin used to transfer address and data to and from the bq2060A and the external nonvolatile configuration memory", 4 RBI (power) "Register backup input. Input that provides backup potential to the bq2060A registers during periods of low operating voltage.RBI accepts a storage capacitor or a battery input.", 5 REG (power) "Regulator output. Output to control an n-JFET for VCC regulation to the bq2060A from the battery potential", 6 VOUT (power) "EEPROM supply output. Output that supplies power to the external EEPROM configuration memory", 7 VCC (power) "Supply voltage input", 8 VSS (power) "Ground", 9 ~{DISP} (in) "Display control input. Input that controls the LED drivers LED1-LED5", 10 LED1 (out) "LED display segment output.Output that each may drive an external LED", 11 LED2 (out) "LED display segment output.Output that each may drive an external LED", 12 LED3 (out) "LED display segment output.Output that each may drive an external LED", 13 LED4 (out) "LED display segment output.Output that each may drive an external LED", 14 LED5 (out) "LED display segment output.Output that each may drive an external LED", 15 DFC (out) "Discharge FET control. Output to control the discharge FET in the Li-ion pack protection circuitry", 16 CFC (out) "Charge FET control output. Output to control the charge FET in the Li-ion pack protection circuitry", 17 CVON (hiz) "Cell voltage divider control output. Output control for external FETs to connect the cells to the external voltage dividers during cell voltage measurements", 18 THON (hiz) "Thermistor bias control. Output control for external FETs to connect the thermistor bias resistor during a temperature measurement", 19 TS (in) "Thermistor voltage input. Input connection for a thermistor to monitor temperature", 20 SRC (in) "Current sense input. Input to monitor instantaneous current", 21 SR2 (in) "Charge-flow sense resistor inputs. Input connections for a small value sense resistor to monitor the battery charge and discharge current flow", 22 SR1 (in) "Charge-flow sense resistor inputs. Input connections for a small value sense resistor to monitor the battery charge and discharge current flow", 23 VCELL1 (power) "Single-cell voltage input.Input that monitor the series element cell voltages", 24 VCELL2 (power) "Single-cell voltage input.Input that monitor the series element cell voltages", 25 VCELL3 (power) "Single-cell voltage input.Input that monitor the series element cell voltages", 26 VCELL4 (power) "Single-cell voltage input.Input that monitor the series element cell voltages", 27 SMBD (io) "SMBus data. Open-drain bidirectional pin used to transfer address and data to and from the bq2060A", 28 SMBC (io) "SMBus clock. Open-drain bidirectional pin used to clock the data transfer to and from the bq2060A"